# EAGLE library part MCU.TO.PPG (library CalvEngIO-Connectors)
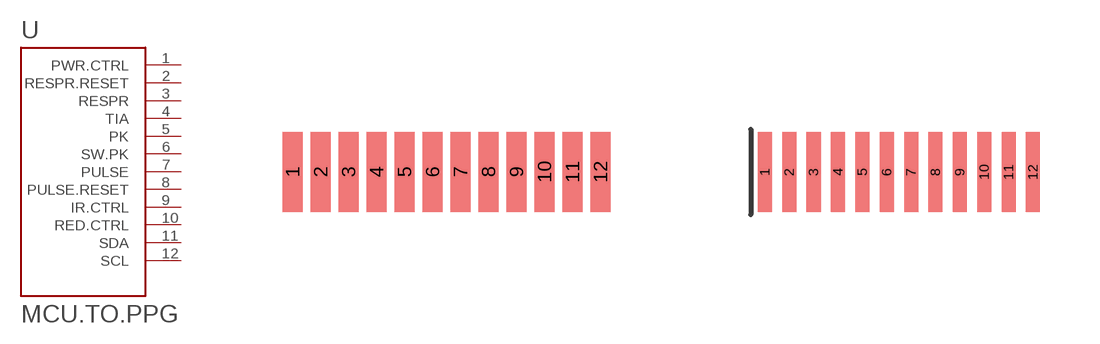
[diagram p17: symbol with the pads of MCU.TO.PPG; footprints MCU.TO.PPG, MCU.TO.PPG.MAIN.BOARD]

Designator prefix -

## MCU.TO.PPG  [MCU.TO.PPG]
1  PWR.CTRL
2  RESPR.RESET
3  RESPR
4  TIA
5  PK
6  SW.PK
7  PULSE
8  PULSE.RESET
9  IR.CTRL
10  RED.CTRL
11  SDA
12  SCL

## MCU.TO.PPG.SMALLER  [MCU.TO.PPG.MAIN.BOARD]
Pads as for MCU.TO.PPG

## Footprint MCU.TO.PPG (pad centres in mm)
smd 0.5 x 2: 1 -2.1,0; 2 -1.4,0; 3 -0.7,0; 4 0,0; 5 0.7,0; 6 1.4,0; 7 2.1,0; 8 2.8,0; 9 3.5,0; 10 4.2,0; 11 4.9,0; 12 5.6,0

## Footprint MCU.TO.PPG.MAIN.BOARD (pad centres in mm)
smd 0.351 x 2: 1 0,0; 2 0.61,0; 3 1.219,0; 4 1.829,0; 5 2.438,0; 6 3.048,0; 7 3.658,0; 8 4.267,0; 9 4.877,0; 10 5.486,0; 11 6.096,0; 12 6.706,0